# EAGLE library part V3S (library AllWinner V3s)
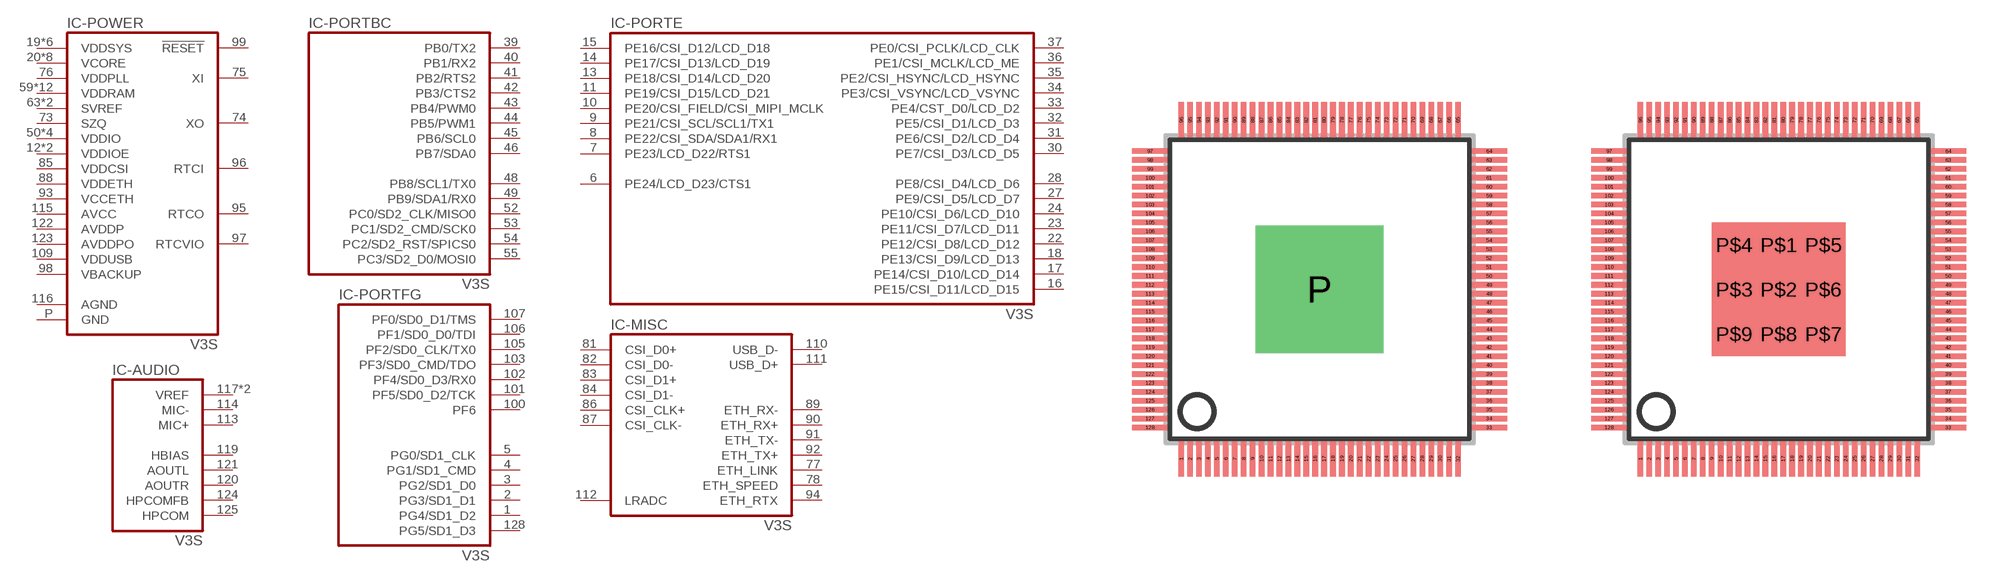
[diagram p1: symbol with the pads of ELQFP128-H; footprints ELQFP128-H, ELQFP128]

Designator prefix IC; gates -POWER=V3S-POWER -PORTBC=V3S-PORTB -PORTE=V3S-PORTE -PORTFG=V3S-PORTF -MISC=V3S-USB -AUDIO=V3S-AUDIO

## V3SH  [ELQFP128-H]
1  -PORTFG:PG4/SD1_D2
2  -PORTFG:PG3/SD1_D1
3  -PORTFG:PG2/SD1_D0
4  -PORTFG:PG1/SD1_CMD
5  -PORTFG:PG0/SD1_CLK
6  -PORTE:PE24/LCD_D23/CTS1
7  -PORTE:PE23/LCD_D22/RTS1
8  -PORTE:PE22/CSI_SDA/SDA1/RX1
9  -PORTE:PE21/CSI_SCL/SCL1/TX1
10  -PORTE:PE20/CSI_FIELD/CSI_MIPI_MCLK
11  -PORTE:PE19/CSI_D15/LCD_D21
12  -POWER:VDDIOE
13  -PORTE:PE18/CSI_D14/LCD_D20
14  -PORTE:PE17/CSI_D13/LCD_D19
15  -PORTE:PE16/CSI_D12/LCD_D18
16  -PORTE:PE15/CSI_D11/LCD_D15
17  -PORTE:PE14/CSI_D10/LCD_D14
18  -PORTE:PE13/CSI_D9/LCD_D13
19  -POWER:VDDSYS
20  -POWER:VCORE
21  -POWER:VCORE
22  -PORTE:PE12/CSI_D8/LCD_D12
23  -PORTE:PE11/CSI_D7/LCD_D11
24  -PORTE:PE10/CSI_D6/LCD_D10
25  -POWER:VCORE
26  -POWER:VCORE
27  -PORTE:PE9/CSI_D5/LCD_D7
28  -PORTE:PE8/CSI_D4/LCD_D6
29  -POWER:VDDIOE
30  -PORTE:PE7/CSI_D3/LCD_D5
31  -PORTE:PE6/CSI_D2/LCD_D4
32  -PORTE:PE5/CSI_D1/LCD_D3
33  -PORTE:PE4/CST_D0/LCD_D2
34  -PORTE:PE3/CSI_VSYNC/LCD_VSYNC
35  -PORTE:PE2/CSI_HSYNC/LCD_HSYNC
36  -PORTE:PE1/CSI_MCLK/LCD_ME
37  -PORTE:PE0/CSI_PCLK/LCD_CLK
38  -POWER:VCORE
39  -PORTBC:PB0/TX2
40  -PORTBC:PB1/RX2
41  -PORTBC:PB2/RTS2
42  -PORTBC:PB3/CTS2
43  -PORTBC:PB4/PWM0
44  -PORTBC:PB5/PWM1
45  -PORTBC:PB6/SCL0
46  -PORTBC:PB7/SDA0
47  -POWER:VCORE
48  -PORTBC:PB8/SCL1/TX0
49  -PORTBC:PB9/SDA1/RX0
50  -POWER:VDDIO
51  -POWER:VCORE
52  -PORTBC:PC0/SD2_CLK/MISO0
53  -PORTBC:PC1/SD2_CMD/SCK0
54  -PORTBC:PC2/SD2_RST/SPICS0
55  -PORTBC:PC3/SD2_D0/MOSI0
56  -POWER:VCORE
57  -POWER:VDDIO
58  -POWER:VDDSYS
59  -POWER:VDDRAM
60  -POWER:VDDRAM
61  -POWER:VDDRAM
62  -POWER:VDDRAM
63  -POWER:SVREF
64  -POWER:VDDSYS
65  -POWER:VDDRAM
66  -POWER:VDDRAM
67  -POWER:VDDRAM
68  -POWER:VDDRAM
69  -POWER:VDDRAM
70  -POWER:VDDRAM
71  -POWER:SVREF
72  -POWER:VDDRAM
73  -POWER:SZQ
74  -POWER:XO
75  -POWER:XI
76  -POWER:VDDPLL
77  -MISC:ETH_LINK
78  -MISC:ETH_SPEED
79  -POWER:VDDRAM
80  -POWER:VDDSYS
81  -MISC:CSI_D0+
82  -MISC:CSI_D0-
83  -MISC:CSI_D1+
84  -MISC:CSI_D1-
85  -POWER:VDDCSI
86  -MISC:CSI_CLK+
87  -MISC:CSI_CLK-
88  -POWER:VDDETH
89  -MISC:ETH_RX-
90  -MISC:ETH_RX+
91  -MISC:ETH_TX-
92  -MISC:ETH_TX+
93  -POWER:VCCETH
94  -MISC:ETH_RTX
95  -POWER:RTCO
96  -POWER:RTCI
97  -POWER:RTCVIO
98  -POWER:VBACKUP
99  -POWER:!RESET
100  -PORTFG:PF6
101  -PORTFG:PF5/SD0_D2/TCK
102  -PORTFG:PF4/SD0_D3/RX0
103  -PORTFG:PF3/SD0_CMD/TDO
104  -POWER:VDDIO
105  -PORTFG:PF2/SD0_CLK/TX0
106  -PORTFG:PF1/SD0_D0/TDI
107  -PORTFG:PF0/SD0_D1/TMS
108  -POWER:VDDSYS
109  -POWER:VDDUSB
110  -MISC:USB_D-
111  -MISC:USB_D+
112  -MISC:LRADC
113  -AUDIO:MIC+
114  -AUDIO:MIC-
115  -POWER:AVCC
116  -POWER:AGND
117  -AUDIO:VREF
118  -AUDIO:VREF
119  -AUDIO:HBIAS
120  -AUDIO:AOUTR
121  -AUDIO:AOUTL
122  -POWER:AVDDP
123  -POWER:AVDDPO
124  -AUDIO:HPCOMFB
125  -AUDIO:HPCOM
126  -POWER:VDDSYS
127  -POWER:VDDIO
128  -PORTFG:PG5/SD1_D3
P  -POWER:GND

## V3S  [ELQFP128]
1  -PORTFG:PG4/SD1_D2
2  -PORTFG:PG3/SD1_D1
3  -PORTFG:PG2/SD1_D0
4  -PORTFG:PG1/SD1_CMD
5  -PORTFG:PG0/SD1_CLK
6  -PORTE:PE24/LCD_D23/CTS1
7  -PORTE:PE23/LCD_D22/RTS1
8  -PORTE:PE22/CSI_SDA/SDA1/RX1
9  -PORTE:PE21/CSI_SCL/SCL1/TX1
10  -PORTE:PE20/CSI_FIELD/CSI_MIPI_MCLK
11  -PORTE:PE19/CSI_D15/LCD_D21
12  -POWER:VDDIOE
13  -PORTE:PE18/CSI_D14/LCD_D20
14  -PORTE:PE17/CSI_D13/LCD_D19
15  -PORTE:PE16/CSI_D12/LCD_D18
16  -PORTE:PE15/CSI_D11/LCD_D15
17  -PORTE:PE14/CSI_D10/LCD_D14
18  -PORTE:PE13/CSI_D9/LCD_D13
19  -POWER:VDDSYS
20  -POWER:VCORE
21  -POWER:VCORE
22  -PORTE:PE12/CSI_D8/LCD_D12
23  -PORTE:PE11/CSI_D7/LCD_D11
24  -PORTE:PE10/CSI_D6/LCD_D10
25  -POWER:VCORE
26  -POWER:VCORE
27  -PORTE:PE9/CSI_D5/LCD_D7
28  -PORTE:PE8/CSI_D4/LCD_D6
29  -POWER:VDDIOE
30  -PORTE:PE7/CSI_D3/LCD_D5
31  -PORTE:PE6/CSI_D2/LCD_D4
32  -PORTE:PE5/CSI_D1/LCD_D3
33  -PORTE:PE4/CST_D0/LCD_D2
34  -PORTE:PE3/CSI_VSYNC/LCD_VSYNC
35  -PORTE:PE2/CSI_HSYNC/LCD_HSYNC
36  -PORTE:PE1/CSI_MCLK/LCD_ME
37  -PORTE:PE0/CSI_PCLK/LCD_CLK
38  -POWER:VCORE
39  -PORTBC:PB0/TX2
40  -PORTBC:PB1/RX2
41  -PORTBC:PB2/RTS2
42  -PORTBC:PB3/CTS2
43  -PORTBC:PB4/PWM0
44  -PORTBC:PB5/PWM1
45  -PORTBC:PB6/SCL0
46  -PORTBC:PB7/SDA0
47  -POWER:VCORE
48  -PORTBC:PB8/SCL1/TX0
49  -PORTBC:PB9/SDA1/RX0
50  -POWER:VDDIO
51  -POWER:VCORE
52  -PORTBC:PC0/SD2_CLK/MISO0
53  -PORTBC:PC1/SD2_CMD/SCK0
54  -PORTBC:PC2/SD2_RST/SPICS0
55  -PORTBC:PC3/SD2_D0/MOSI0
56  -POWER:VCORE
57  -POWER:VDDIO
58  -POWER:VDDSYS
59  -POWER:VDDRAM
60  -POWER:VDDRAM
61  -POWER:VDDRAM
62  -POWER:VDDRAM
63  -POWER:SVREF
64  -POWER:VDDSYS
65  -POWER:VDDRAM
66  -POWER:VDDRAM
67  -POWER:VDDRAM
68  -POWER:VDDRAM
69  -POWER:VDDRAM
70  -POWER:VDDRAM
71  -POWER:SVREF
72  -POWER:VDDRAM
73  -POWER:SZQ
74  -POWER:XO
75  -POWER:XI
76  -POWER:VDDPLL
77  -MISC:ETH_LINK
78  -MISC:ETH_SPEED
79  -POWER:VDDRAM
80  -POWER:VDDSYS
81  -MISC:CSI_D0+
82  -MISC:CSI_D0-
83  -MISC:CSI_D1+
84  -MISC:CSI_D1-
85  -POWER:VDDCSI
86  -MISC:CSI_CLK+
87  -MISC:CSI_CLK-
88  -POWER:VDDETH
89  -MISC:ETH_RX-
90  -MISC:ETH_RX+
91  -MISC:ETH_TX-
92  -MISC:ETH_TX+
93  -POWER:VCCETH
94  -MISC:ETH_RTX
95  -POWER:RTCO
96  -POWER:RTCI
97  -POWER:RTCVIO
98  -POWER:VBACKUP
99  -POWER:!RESET
100  -PORTFG:PF6
101  -PORTFG:PF5/SD0_D2/TCK
102  -PORTFG:PF4/SD0_D3/RX0
103  -PORTFG:PF3/SD0_CMD/TDO
104  -POWER:VDDIO
105  -PORTFG:PF2/SD0_CLK/TX0
106  -PORTFG:PF1/SD0_D0/TDI
107  -PORTFG:PF0/SD0_D1/TMS
108  -POWER:VDDSYS
109  -POWER:VDDUSB
110  -MISC:USB_D-
111  -MISC:USB_D+
112  -MISC:LRADC
113  -AUDIO:MIC+
114  -AUDIO:MIC-
115  -POWER:AVCC
116  -POWER:AGND
117  -AUDIO:VREF
118  -AUDIO:VREF
119  -AUDIO:HBIAS
120  -AUDIO:AOUTR
121  -AUDIO:AOUTL
122  -POWER:AVDDP
123  -POWER:AVDDPO
124  -AUDIO:HPCOMFB
125  -AUDIO:HPCOM
126  -POWER:VDDSYS
127  -POWER:VDDIO
128  -PORTFG:PG5/SD1_D3
P$1  -POWER:GND
P$2  -POWER:GND
P$3  -POWER:GND
P$4  -POWER:GND
P$5  -POWER:GND
P$6  -POWER:GND
P$7  -POWER:GND
P$8  -POWER:GND
P$9  -POWER:GND

## Footprint ELQFP128-H (pad centres in mm)
QFP128 shrink quad flat pack, square
smd 0.25 x 1.6: 1 -6.2,-7.6; 2 -5.8,-7.6; 3 -5.4,-7.6; 4 -5,-7.6; 5 -4.6,-7.6; 6 -4.2,-7.6; 7 -3.8,-7.6; 8 -3.4,-7.6; 9 -3,-7.6; 10 -2.6,-7.6; 11 -2.2,-7.6; 12 -1.8,-7.6; 13 -1.4,-7.6; 14 -1,-7.6; 15 -0.6,-7.6; 16 -0.2,-7.6; 17 0.2,-7.6; 18 0.6,-7.6; 19 1,-7.6; 20 1.4,-7.6; 21 1.8,-7.6; 22 2.2,-7.6; 23 2.6,-7.6; 24 3,-7.6; 25 3.4,-7.6; 26 3.8,-7.6; 27 4.2,-7.6; 28 4.6,-7.6; 29 5,-7.6; 30 5.4,-7.6; 31 5.8,-7.6; 32 6.2,-7.6; 65 6.2,7.6; 66 5.8,7.6; 67 5.4,7.6; 68 5,7.6; 69 4.6,7.6; 70 4.2,7.6; 71 3.8,7.6; 72 3.4,7.6; 73 3,7.6; 74 2.6,7.6; 75 2.2,7.6; 76 1.8,7.6; 77 1.4,7.6; 78 1,7.6; 79 0.6,7.6; 80 0.2,7.6; 81 -0.2,7.6; 82 -0.6,7.6; 83 -1,7.6; 84 -1.4,7.6; 85 -1.8,7.6; 86 -2.2,7.6; 87 -2.6,7.6; 88 -3,7.6; 89 -3.4,7.6; 90 -3.8,7.6; 91 -4.2,7.6; 92 -4.6,7.6; 93 -5,7.6; 94 -5.4,7.6; 95 -5.8,7.6; 96 -6.2,7.6
smd 1.6 x 0.25: 33 7.6,-6.2; 34 7.6,-5.8; 35 7.6,-5.4; 36 7.6,-5; 37 7.6,-4.6; 38 7.6,-4.2; 39 7.6,-3.8; 40 7.6,-3.4; 41 7.6,-3; 42 7.6,-2.6; 43 7.6,-2.2; 44 7.6,-1.8; 45 7.6,-1.4; 46 7.6,-1; 47 7.6,-0.6; 48 7.6,-0.2; 49 7.6,0.2; 50 7.6,0.6; 51 7.6,1; 52 7.6,1.4; 53 7.6,1.8; 54 7.6,2.2; 55 7.6,2.6; 56 7.6,3; 57 7.6,3.4; 58 7.6,3.8; 59 7.6,4.2; 60 7.6,4.6; 61 7.6,5; 62 7.6,5.4; 63 7.6,5.8; 64 7.6,6.2; 97 -7.6,6.2; 98 -7.6,5.8; 99 -7.6,5.4; 100 -7.6,5; 101 -7.6,4.6; 102 -7.6,4.2; 103 -7.6,3.8; 104 -7.6,3.4; 105 -7.6,3; 106 -7.6,2.6; 107 -7.6,2.2; 108 -7.6,1.8; 109 -7.6,1.4; 110 -7.6,1; 111 -7.6,0.6; 112 -7.6,0.2; 113 -7.6,-0.2; 114 -7.6,-0.6; 115 -7.6,-1; 116 -7.6,-1.4; 117 -7.6,-1.8; 118 -7.6,-2.2; 119 -7.6,-2.6; 120 -7.6,-3; 121 -7.6,-3.4; 122 -7.6,-3.8; 123 -7.6,-4.2; 124 -7.6,-4.6; 125 -7.6,-5; 126 -7.6,-5.4; 127 -7.6,-5.8; 128 -7.6,-6.2
drill 3.2 pad 5.715 square: P 0,0

## Footprint ELQFP128 (pad centres in mm)
smd 0.25 x 1.6: 1 -6.2,-7.6; 2 -5.8,-7.6; 3 -5.4,-7.6; 4 -5,-7.6; 5 -4.6,-7.6; 6 -4.2,-7.6; 7 -3.8,-7.6; 8 -3.4,-7.6; 9 -3,-7.6; 10 -2.6,-7.6; 11 -2.2,-7.6; 12 -1.8,-7.6; 13 -1.4,-7.6; 14 -1,-7.6; 15 -0.6,-7.6; 16 -0.2,-7.6; 17 0.2,-7.6; 18 0.6,-7.6; 19 1,-7.6; 20 1.4,-7.6; 21 1.8,-7.6; 22 2.2,-7.6; 23 2.6,-7.6; 24 3,-7.6; 25 3.4,-7.6; 26 3.8,-7.6; 27 4.2,-7.6; 28 4.6,-7.6; 29 5,-7.6; 30 5.4,-7.6; 31 5.8,-7.6; 32 6.2,-7.6; 65 6.2,7.6; 66 5.8,7.6; 67 5.4,7.6; 68 5,7.6; 69 4.6,7.6; 70 4.2,7.6; 71 3.8,7.6; 72 3.4,7.6; 73 3,7.6; 74 2.6,7.6; 75 2.2,7.6; 76 1.8,7.6; 77 1.4,7.6; 78 1,7.6; 79 0.6,7.6; 80 0.2,7.6; 81 -0.2,7.6; 82 -0.6,7.6; 83 -1,7.6; 84 -1.4,7.6; 85 -1.8,7.6; 86 -2.2,7.6; 87 -2.6,7.6; 88 -3,7.6; 89 -3.4,7.6; 90 -3.8,7.6; 91 -4.2,7.6; 92 -4.6,7.6; 93 -5,7.6; 94 -5.4,7.6; 95 -5.8,7.6; 96 -6.2,7.6
smd 1.6 x 0.25: 33 7.6,-6.2; 34 7.6,-5.8; 35 7.6,-5.4; 36 7.6,-5; 37 7.6,-4.6; 38 7.6,-4.2; 39 7.6,-3.8; 40 7.6,-3.4; 41 7.6,-3; 42 7.6,-2.6; 43 7.6,-2.2; 44 7.6,-1.8; 45 7.6,-1.4; 46 7.6,-1; 47 7.6,-0.6; 48 7.6,-0.2; 49 7.6,0.2; 50 7.6,0.6; 51 7.6,1; 52 7.6,1.4; 53 7.6,1.8; 54 7.6,2.2; 55 7.6,2.6; 56 7.6,3; 57 7.6,3.4; 58 7.6,3.8; 59 7.6,4.2; 60 7.6,4.6; 61 7.6,5; 62 7.6,5.4; 63 7.6,5.8; 64 7.6,6.2; 97 -7.6,6.2; 98 -7.6,5.8; 99 -7.6,5.4; 100 -7.6,5; 101 -7.6,4.6; 102 -7.6,4.2; 103 -7.6,3.8; 104 -7.6,3.4; 105 -7.6,3; 106 -7.6,2.6; 107 -7.6,2.2; 108 -7.6,1.8; 109 -7.6,1.4; 110 -7.6,1; 111 -7.6,0.6; 112 -7.6,0.2; 113 -7.6,-0.2; 114 -7.6,-0.6; 115 -7.6,-1; 116 -7.6,-1.4; 117 -7.6,-1.8; 118 -7.6,-2.2; 119 -7.6,-2.6; 120 -7.6,-3; 121 -7.6,-3.4; 122 -7.6,-3.8; 123 -7.6,-4.2; 124 -7.6,-4.6; 125 -7.6,-5; 126 -7.6,-5.4; 127 -7.6,-5.8; 128 -7.6,-6.2
smd 1.5 x 1.5: P$1 0,2; P$2 0,0; P$3 -2,0; P$4 -2,2; P$5 2,2; P$6 2,0; P$7 2,-2; P$8 0,-2; P$9 -2,-2